# Altium footprint library 18650holder.PcbLib: 1 footprints
Each footprint in its own frame and in the unit in brackets; x right, y up, seen from the top. Pads: shape width x height; smd on the part's side, far side on the other; paste and mask are expansions set on the pad; w line width, h text height; cw(c..) or ccw(c..) is an arc to the next point about the centre after c.
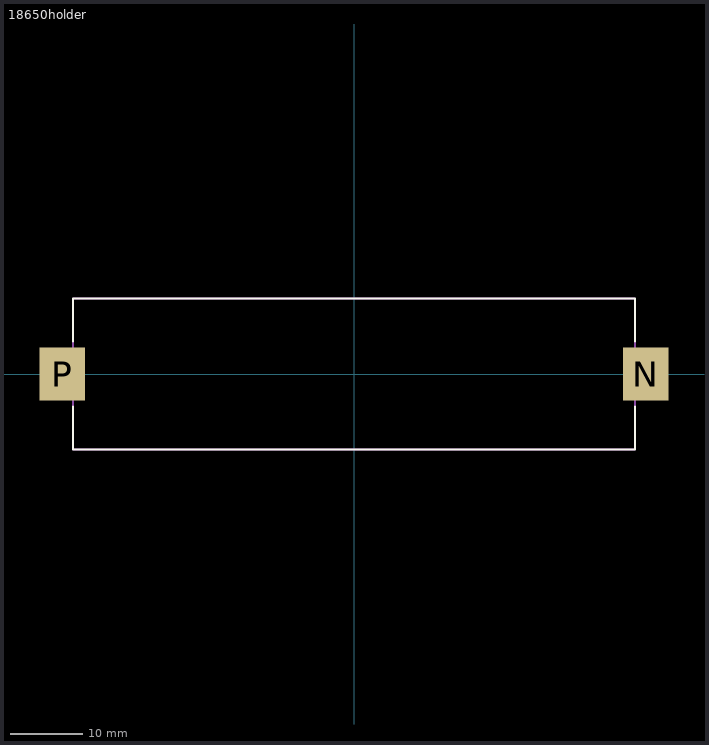
[diagram p0: the footprint, top view; thin cyan lines are the x and y axes]

## 18650holder [mm]
pads (2):
  rect 6.35x7.35 smd: N(40.5,0) P(-40.5,0)
Top Overlay:
  lines w0.254: -39,-4.5 -39,-10.5 39,-10.5 39,-4.5 ; -39,4.5 -39,10.5 39,10.5 39,4.5
Mechanical 13:
  lines w0.254: -43.5,-3.5 -43.5,3.5 -39,3.5 -39,10.5 39,10.5 39,3.5 43.5,3.5 43.5,-3.5 39,-3.5 39,-10.5 -39,-10.5 -39,-3.5 -43.5,-3.5
3D body "keystone-PN1042.STEP": height 14.86, standoff -3.43, extent -43.002,-10.325 43.002,10.325